# Altium footprint library Components - 24.01.22 - 10.31.PcbLib: 3 footprints
Each footprint in its own frame and in the unit in brackets; x right, y up, seen from the top. Pads: shape width x height; smd on the part's side, far side on the other; paste and mask are expansions set on the pad; w line width, h text height; cw(c..) or ccw(c..) is an arc to the next point about the centre after c.
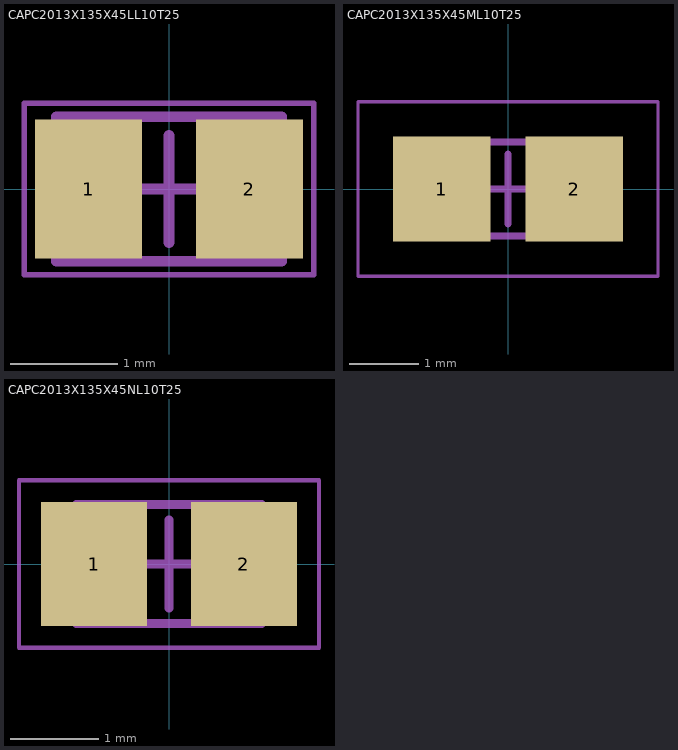
[diagram p0: the footprints below, top view; thin cyan lines are the x and y axes]

## CAPC2013X135X45LL10T25 [mm] "Chip Capacitor, 2-Leads, Body 2.00x1.25mm, IPC High Density"
height 1.35
pads (2):
  rect 1x1.3 smd: 1(-0.75,0) 2(0.75,0)
Mechanical 13:
  lines w0.1: -1.05,-0.675 -1.05,0.675 1.05,0.675 1.05,-0.675 -1.05,-0.675
Mechanical 15:
  lines w0.05: -1.35,-0.8 -1.35,0.8 1.35,0.8 1.35,-0.8 -1.35,-0.8
  lines w0.1: -0.5,0 0.5,0 ; 0,-0.5 0,0.5
3D body: height 1.35, standoff 0, extent -0.6,-0.675 0.6,0.675
3D body: height 1.35, standoff 0, extent -1.05,-0.675 -0.6,0.675
3D body: height 1.35, standoff 0, extent 0.6,-0.675 1.05,0.675

## CAPC2013X135X45ML10T25 [mm] "Chip Capacitor, 2-Leads, Body 2.00x1.25mm, IPC Low Density"
height 1.35
pads (2):
  rect 1.4x1.5 smd: 1(-0.95,0) 2(0.95,0)
Mechanical 13:
  lines w0.1: -1.05,-0.675 -1.05,0.675 1.05,0.675 1.05,-0.675 -1.05,-0.675
Mechanical 15:
  lines w0.05: -2.15,-1.25 -2.15,1.25 2.15,1.25 2.15,-1.25 -2.15,-1.25
  lines w0.1: -0.5,0 0.5,0 ; 0,-0.5 0,0.5
3D body: height 1.35, standoff 0, extent -0.6,-0.675 0.6,0.675
3D body: height 1.35, standoff 0, extent -1.05,-0.675 -0.6,0.675
3D body: height 1.35, standoff 0, extent 0.6,-0.675 1.05,0.675

## CAPC2013X135X45NL10T25 [mm] "Chip Capacitor, 2-Leads, Body 2.00x1.25mm, IPC Medium Density"
height 1.35
pads (2):
  rect 1.2x1.4 smd: 1(-0.85,0) 2(0.85,0)
Mechanical 13:
  lines w0.1: -1.05,-0.675 -1.05,0.675 1.05,0.675 1.05,-0.675 -1.05,-0.675
Mechanical 15:
  lines w0.05: -1.7,-0.95 -1.7,0.95 1.7,0.95 1.7,-0.95 -1.7,-0.95
  lines w0.1: -0.5,0 0.5,0 ; 0,-0.5 0,0.5
3D body: height 1.35, standoff 0, extent -0.6,-0.675 0.6,0.675
3D body: height 1.35, standoff 0, extent -1.05,-0.675 -0.6,0.675
3D body: height 1.35, standoff 0, extent 0.6,-0.675 1.05,0.675